# Altium footprint library HEADER_8_SMT_RA.PcbLib: 1 footprints
Each footprint in its own frame and in the unit in brackets; x right, y up, seen from the top. Pads: shape width x height; smd on the part's side, far side on the other; paste and mask are expansions set on the pad; w line width, h text height; cw(c..) or ccw(c..) is an arc to the next point about the centre after c.
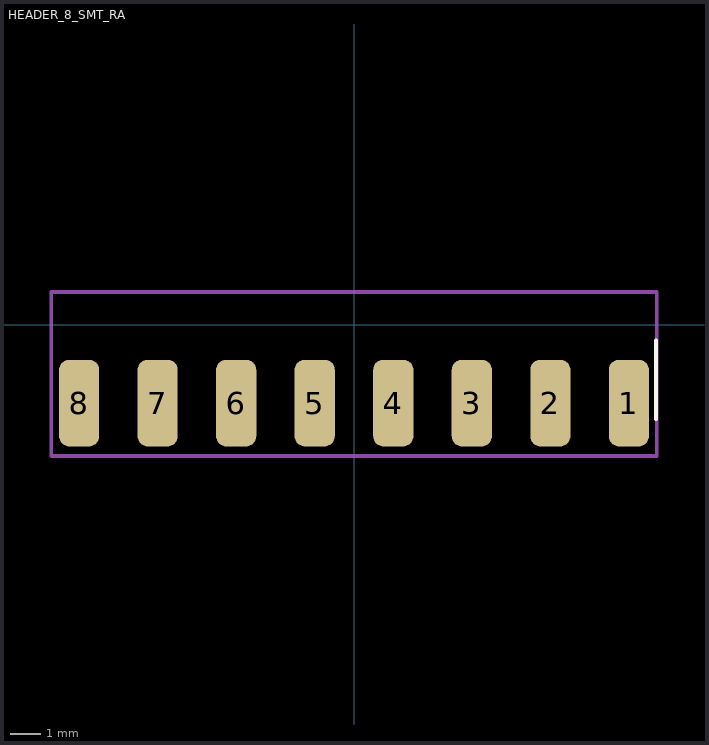
[diagram p0: the footprint, top view; thin cyan lines are the x and y axes]

## HEADER_8_SMT_RA [mm]
pads (8):
  rrect50% 1.3x2.8 smd: 1(8.89,-2.54) 2(6.35,-2.54) 3(3.81,-2.54) 4(1.27,-2.54) 5(-1.27,-2.54) 6(-3.81,-2.54) 7(-6.35,-2.54) 8(-8.89,-2.54)
Top Overlay:
  lines w0.127: 9.765,-3.05 9.765,-0.51
Courtyards/Models - Top:
  lines w0.127: -9.79,-4.25 -9.79,1.05 9.79,1.05 9.79,-4.25 -9.79,-4.25
3D body: height 2.5, standoff 0, extent -10.135,-3.525 10.185,7.575